# Altium footprint library Screw-M4.PcbLib: 13 footprints
Each footprint in its own frame and in the unit in brackets; x right, y up, seen from the top. Pads: shape width x height; smd on the part's side, far side on the other; paste and mask are expansions set on the pad; w line width, h text height; cw(c..) or ccw(c..) is an arc to the next point about the centre after c.
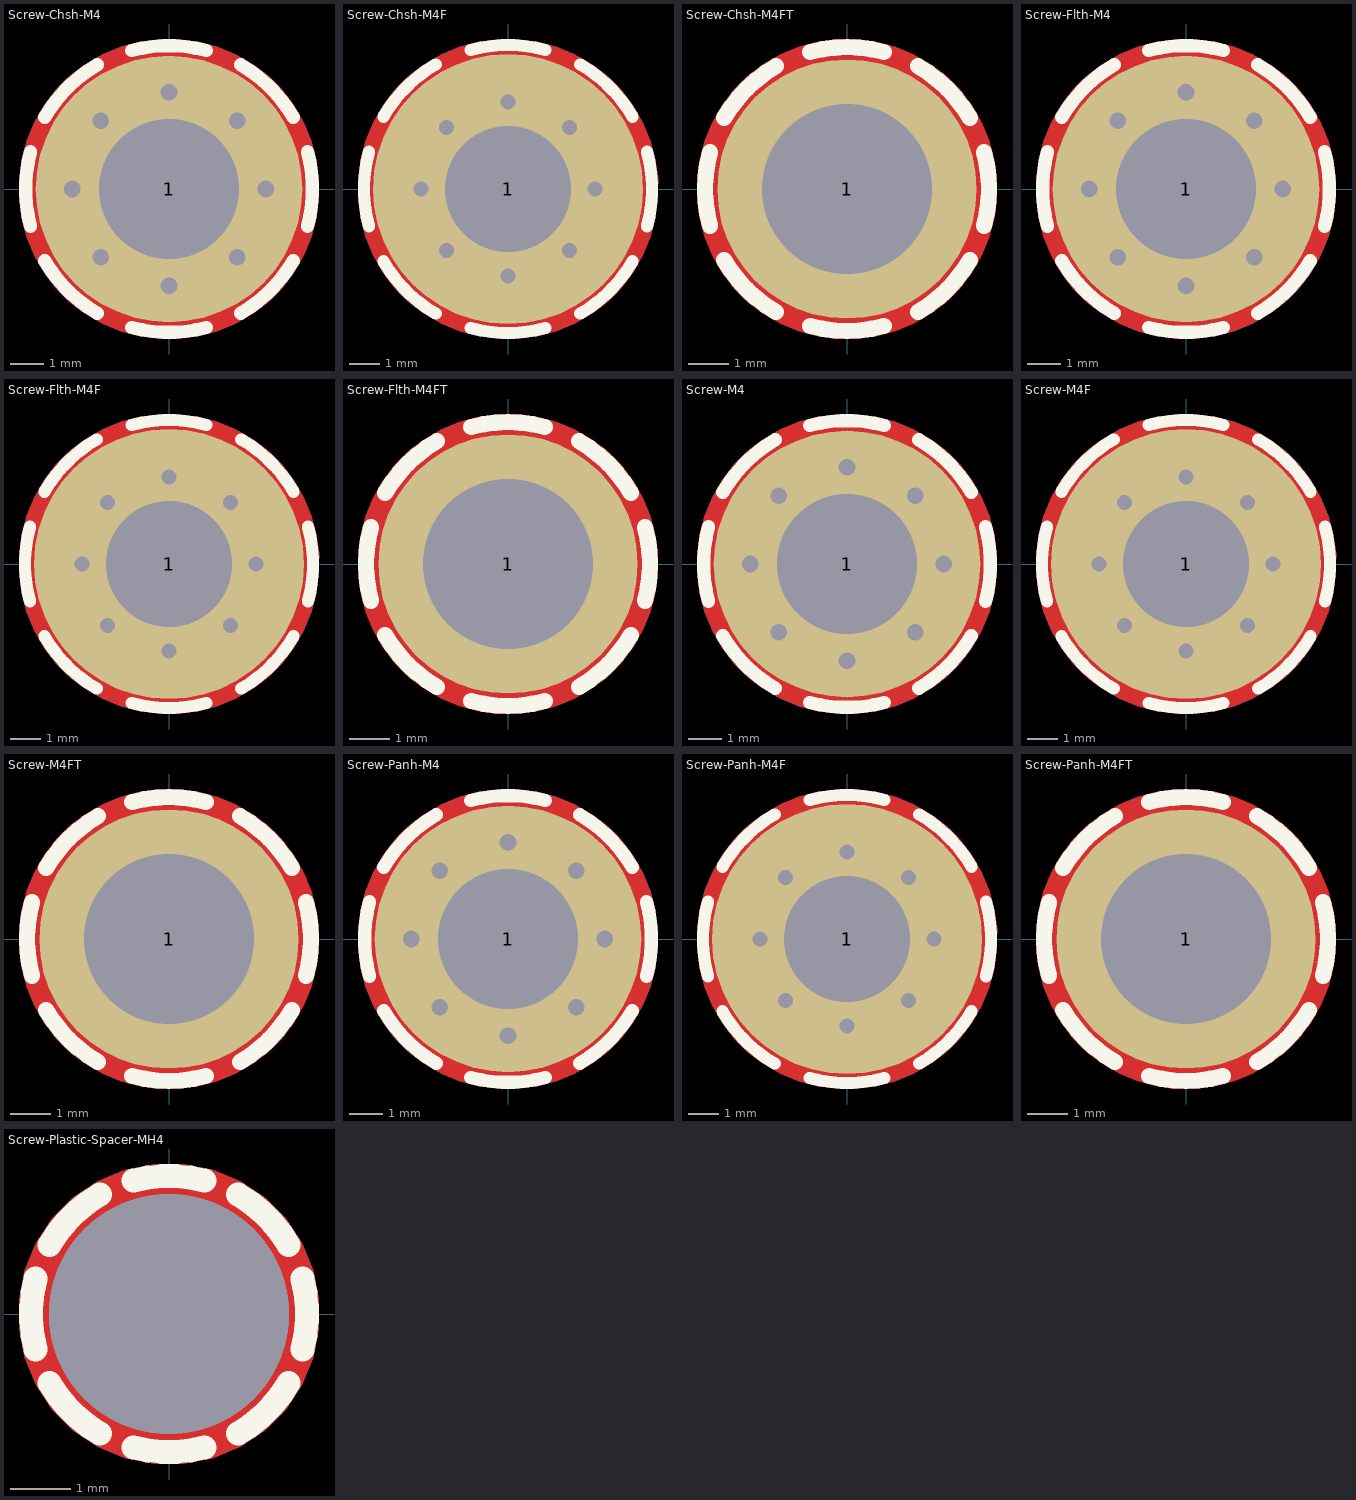
[diagram p0: the footprints below, top view; thin cyan lines are the x and y axes]

## Screw-Chsh-M4 [mm] "Screw, hole diameter 4.2mm, PanHead 8mm"
pads (1):
  round 8 / inner round 4.5 / far side round 8 hole 4.2 mask+0.1: 1(0,0)
via 0,2.9 diameter 0.8 hole 0.5
via 0,-2.9 diameter 0.8 hole 0.5
via 2.051,-2.051 diameter 0.8 hole 0.5
via -2.051,2.051 diameter 0.8 hole 0.5
via 2.9,0 diameter 0.8 hole 0.5
via -2.9,0 diameter 0.8 hole 0.5
via 2.051,2.051 diameter 0.8 hole 0.5
via -2.051,-2.051 diameter 0.8 hole 0.5
Top Layer:
  pour cut-out: 0,4.5 -0.295,4.5 -0.88,4.423 -1.45,4.27 -1.994,4.045 -2.505,3.75 -2.973,3.391 -3.39,2.974 -3.749,2.506 -4.044,1.995 -4.27,1.45 -4.423,0.88 -4.5,0.295 -4.5,0 -4.5,-0.295 -4.423,-0.879 -4.27,-1.449 -4.044,-1.994 -3.749,-2.505 -3.39,-2.973 -2.973,-3.39 -2.505,-3.749 -1.994,-4.044 -1.449,-4.269 -0.88,-4.422 -0.295,-4.499 0,-4.499 0.295,-4.499 0.88,-4.422 1.449,-4.269 1.994,-4.044 2.505,-3.749 2.973,-3.39 3.39,-2.973 3.749,-2.505 4.044,-1.994 4.27,-1.449 4.422,-0.879 4.499,-0.295 4.499,0 4.499,0.295 4.422,0.88 4.27,1.45 4.044,1.995 3.749,2.506 3.39,2.973 2.973,3.391 2.505,3.75 1.994,4.045 1.449,4.27 0.88,4.423 0.295,4.5
Bottom Layer:
  pour cut-out: 0,4.5 -0.295,4.5 -0.88,4.423 -1.45,4.27 -1.994,4.045 -2.505,3.75 -2.973,3.391 -3.39,2.974 -3.749,2.506 -4.044,1.995 -4.27,1.45 -4.423,0.88 -4.5,0.295 -4.5,0 -4.5,-0.295 -4.423,-0.879 -4.27,-1.449 -4.044,-1.994 -3.749,-2.505 -3.39,-2.973 -2.973,-3.39 -2.505,-3.749 -1.994,-4.044 -1.449,-4.269 -0.88,-4.422 -0.295,-4.499 0,-4.499 0.295,-4.499 0.88,-4.422 1.449,-4.269 1.994,-4.044 2.505,-3.749 2.973,-3.39 3.39,-2.973 3.749,-2.505 4.044,-1.994 4.27,-1.449 4.422,-0.879 4.499,-0.295 4.499,0 4.499,0.295 4.422,0.88 4.27,1.45 4.044,1.995 3.749,2.506 3.39,2.973 2.973,3.391 2.505,3.75 1.994,4.045 1.449,4.27 0.88,4.423 0.295,4.5
Top Overlay:
  lines w0.4: -4.153,-1.113 cw(c0,0) -4.153,1.113 ; -3.724,-2.15 ccw(c0,0) -2.15,-3.724 ; -3.724,2.15 cw(c0,0) -2.15,3.724 ; -1.113,-4.153 ccw(c0,0) 1.113,-4.153 ; -1.113,4.153 cw(c0,0) 1.113,4.153 ; 2.15,-3.724 ccw(c0,0) 3.724,-2.15 ; 2.15,3.724 cw(c0,0) 3.724,2.15 ; 4.153,-1.113 ccw(c0,0) 4.153,1.113
3D body "SCRW_CHSH_PHLIPS_M4X8.stp": height 3.18, standoff -7.8, extent -4,-4 4,4

## Screw-Chsh-M4F [mm] "Screw, hole diameter 4.2mm, PanHead 9mm"
pads (1):
  round 9 / inner round 4.5 / far side round 9 hole 4.2 mask+0.1: 1(0,0)
via 0,2.9 diameter 0.8 hole 0.5
via 0,-2.9 diameter 0.8 hole 0.5
via 2.051,-2.051 diameter 0.8 hole 0.5
via -2.051,2.051 diameter 0.8 hole 0.5
via 2.9,0 diameter 0.8 hole 0.5
via -2.9,0 diameter 0.8 hole 0.5
via 2.051,2.051 diameter 0.8 hole 0.5
via -2.051,-2.051 diameter 0.8 hole 0.5
Top Layer:
  pour cut-out: 0,5 -0.328,5 -0.978,4.915 -1.611,4.745 -2.216,4.494 -2.784,4.167 -3.304,3.768 -3.767,3.304 -4.166,2.784 -4.494,2.217 -4.745,1.611 -4.914,0.978 -5,0.328 -5,0 -5,-0.327 -4.914,-0.977 -4.745,-1.61 -4.494,-2.216 -4.166,-2.784 -3.767,-3.304 -3.304,-3.767 -2.784,-4.166 -2.216,-4.494 -1.611,-4.745 -0.978,-4.914 -0.328,-5 0,-5 0.328,-5 0.978,-4.914 1.611,-4.745 2.216,-4.494 2.784,-4.166 3.304,-3.767 3.767,-3.304 4.166,-2.784 4.494,-2.216 4.745,-1.61 4.914,-0.977 5,-0.327 5,0 5,0.328 4.914,0.978 4.745,1.611 4.494,2.217 4.166,2.784 3.767,3.304 3.304,3.768 2.784,4.167 2.216,4.494 1.611,4.745 0.978,4.915 0.328,5
Bottom Layer:
  pour cut-out: 0,5 -0.328,5 -0.978,4.915 -1.611,4.745 -2.216,4.494 -2.784,4.167 -3.304,3.768 -3.767,3.304 -4.166,2.784 -4.494,2.217 -4.745,1.611 -4.914,0.978 -5,0.328 -5,0 -5,-0.327 -4.914,-0.977 -4.745,-1.61 -4.494,-2.216 -4.166,-2.784 -3.767,-3.304 -3.304,-3.767 -2.784,-4.166 -2.216,-4.494 -1.611,-4.745 -0.978,-4.914 -0.328,-5 0,-5 0.328,-5 0.978,-4.914 1.611,-4.745 2.216,-4.494 2.784,-4.166 3.304,-3.767 3.767,-3.304 4.166,-2.784 4.494,-2.216 4.745,-1.61 4.914,-0.977 5,-0.327 5,0 5,0.328 4.914,0.978 4.745,1.611 4.494,2.217 4.166,2.784 3.767,3.304 3.304,3.768 2.784,4.167 2.216,4.494 1.611,4.745 0.978,4.915 0.328,5
Top Overlay:
  lines w0.4: -4.636,-1.242 cw(c0,0) -4.636,1.242 ; -4.157,-2.4 ccw(c0,0) -2.4,-4.157 ; -4.157,2.4 cw(c0,0) -2.4,4.157 ; -1.242,-4.636 ccw(c0,0) 1.242,-4.636 ; -1.242,4.636 cw(c0,0) 1.242,4.636 ; 2.4,-4.157 ccw(c0,0) 4.157,-2.4 ; 2.4,4.157 cw(c0,0) 4.157,2.4 ; 4.636,-1.242 ccw(c0,0) 4.636,1.242
3D body "SCRW_CHSH_PHLIPS_M4X8.stp": height 3.18, standoff -7.8, extent -4,-4 4,4

## Screw-Chsh-M4FT [mm] "Screw, hole diameter 4.2mm, PanHead 6.4mm"
pads (1):
  round 6.4 / inner round 4.5 / far side round 6.4 hole 4.2 mask+0.1: 1(0,0)
Top Layer:
  pour cut-out: 0,3.7 -0.243,3.7 -0.723,3.637 -1.192,3.511 -1.64,3.326 -2.06,3.083 -2.445,2.788 -2.788,2.445 -3.083,2.06 -3.326,1.64 -3.511,1.192 -3.637,0.724 -3.7,0.243 -3.7,0 -3.7,-0.242 -3.637,-0.723 -3.511,-1.192 -3.326,-1.64 -3.083,-2.06 -2.788,-2.445 -2.445,-2.788 -2.06,-3.083 -1.64,-3.325 -1.192,-3.511 -0.723,-3.636 -0.243,-3.7 0,-3.7 0.242,-3.7 0.723,-3.636 1.192,-3.511 1.64,-3.325 2.06,-3.083 2.445,-2.787 2.788,-2.445 3.083,-2.06 3.326,-1.64 3.511,-1.192 3.637,-0.723 3.7,-0.242 3.7,0 3.7,0.243 3.637,0.724 3.511,1.192 3.326,1.64 3.083,2.06 2.788,2.445 2.445,2.788 2.06,3.083 1.64,3.326 1.192,3.512 0.723,3.637 0.242,3.7
Top Overlay:
  lines w0.4: -3.381,-0.906 cw(c0,0) -3.381,0.906 ; -3.031,-1.75 ccw(c0,0) -1.75,-3.031 ; -3.031,1.75 cw(c0,0) -1.75,3.031 ; -0.906,-3.381 ccw(c0,0) 0.906,-3.381 ; -0.906,3.381 cw(c0,0) 0.906,3.381 ; 1.75,-3.031 ccw(c0,0) 3.031,-1.75 ; 1.75,3.031 cw(c0,0) 3.031,1.75 ; 3.381,-0.906 ccw(c0,0) 3.381,0.906
3D body "SCRW_CHSH_PHLIPS_M4X8.stp": height 3.18, standoff -7.8, extent -4,-4 4,4

## Screw-Flth-M4 [mm] "Screw, hole diameter 4.2mm, PanHead 8mm"
pads (1):
  round 8 / inner round 4.5 / far side round 8 hole 4.2 mask+0.1: 1(0,0)
via -2.051,-2.051 diameter 0.8 hole 0.5
via 2.051,2.051 diameter 0.8 hole 0.5
via -2.9,0 diameter 0.8 hole 0.5
via 2.9,0 diameter 0.8 hole 0.5
via -2.051,2.051 diameter 0.8 hole 0.5
via 2.051,-2.051 diameter 0.8 hole 0.5
via 0,-2.9 diameter 0.8 hole 0.5
via 0,2.9 diameter 0.8 hole 0.5
Top Layer:
  pour cut-out: 0,4.5 -0.295,4.5 -0.88,4.423 -1.45,4.27 -1.994,4.045 -2.505,3.75 -2.973,3.391 -3.39,2.974 -3.749,2.506 -4.044,1.995 -4.27,1.45 -4.423,0.88 -4.5,0.295 -4.5,0 -4.5,-0.295 -4.423,-0.879 -4.27,-1.449 -4.044,-1.994 -3.749,-2.505 -3.39,-2.973 -2.973,-3.39 -2.505,-3.749 -1.994,-4.044 -1.449,-4.269 -0.88,-4.422 -0.295,-4.499 0,-4.499 0.295,-4.499 0.88,-4.422 1.449,-4.269 1.994,-4.044 2.505,-3.749 2.973,-3.39 3.39,-2.973 3.749,-2.505 4.044,-1.994 4.27,-1.449 4.422,-0.879 4.499,-0.295 4.499,0 4.499,0.295 4.422,0.88 4.27,1.45 4.044,1.995 3.749,2.506 3.39,2.973 2.973,3.391 2.505,3.75 1.994,4.045 1.449,4.27 0.88,4.423 0.295,4.5
Bottom Layer:
  pour cut-out: 0,4.5 -0.295,4.5 -0.88,4.423 -1.45,4.27 -1.994,4.045 -2.505,3.75 -2.973,3.391 -3.39,2.974 -3.749,2.506 -4.044,1.995 -4.27,1.45 -4.423,0.88 -4.5,0.295 -4.5,0 -4.5,-0.295 -4.423,-0.879 -4.27,-1.449 -4.044,-1.994 -3.749,-2.505 -3.39,-2.973 -2.973,-3.39 -2.505,-3.749 -1.994,-4.044 -1.449,-4.269 -0.88,-4.422 -0.295,-4.499 0,-4.499 0.295,-4.499 0.88,-4.422 1.449,-4.269 1.994,-4.044 2.505,-3.749 2.973,-3.39 3.39,-2.973 3.749,-2.505 4.044,-1.994 4.27,-1.449 4.422,-0.879 4.499,-0.295 4.499,0 4.499,0.295 4.422,0.88 4.27,1.45 4.044,1.995 3.749,2.506 3.39,2.973 2.973,3.391 2.505,3.75 1.994,4.045 1.449,4.27 0.88,4.423 0.295,4.5
Top Overlay:
  lines w0.4: -4.153,-1.113 cw(c0,0) -4.153,1.113 ; -3.724,-2.15 ccw(c0,0) -2.15,-3.724 ; -3.724,2.15 cw(c0,0) -2.15,3.724 ; -1.113,-4.153 ccw(c0,0) 1.113,-4.153 ; -1.113,4.153 cw(c0,0) 1.113,4.153 ; 2.15,-3.724 ccw(c0,0) 3.724,-2.15 ; 2.15,3.724 cw(c0,0) 3.724,2.15 ; 4.153,-1.113 ccw(c0,0) 4.153,1.113
3D body "t1crfchms_unf_no__8_36_0_188_0_188.stp": height 2.2, standoff -2.58, extent -3.619,-3.619 3.62,3.62

## Screw-Flth-M4F [mm] "Screw, hole diameter 4.2mm, PanHead 9mm"
pads (1):
  round 9 / inner round 4.5 / far side round 9 hole 4.2 mask+0.1: 1(0,0)
via 0,2.9 diameter 0.8 hole 0.5
via 0,-2.9 diameter 0.8 hole 0.5
via 2.051,-2.051 diameter 0.8 hole 0.5
via -2.051,2.051 diameter 0.8 hole 0.5
via 2.9,0 diameter 0.8 hole 0.5
via -2.9,0 diameter 0.8 hole 0.5
via 2.051,2.051 diameter 0.8 hole 0.5
via -2.051,-2.051 diameter 0.8 hole 0.5
Top Layer:
  pour cut-out: 0,5 -0.328,5 -0.978,4.915 -1.611,4.745 -2.216,4.494 -2.784,4.167 -3.304,3.768 -3.767,3.304 -4.166,2.784 -4.494,2.217 -4.745,1.611 -4.914,0.978 -5,0.328 -5,0 -5,-0.327 -4.914,-0.977 -4.745,-1.61 -4.494,-2.216 -4.166,-2.784 -3.767,-3.304 -3.304,-3.767 -2.784,-4.166 -2.216,-4.494 -1.611,-4.745 -0.978,-4.914 -0.328,-5 0,-5 0.328,-5 0.978,-4.914 1.611,-4.745 2.216,-4.494 2.784,-4.166 3.304,-3.767 3.767,-3.304 4.166,-2.784 4.494,-2.216 4.745,-1.61 4.914,-0.977 5,-0.327 5,0 5,0.328 4.914,0.978 4.745,1.611 4.494,2.217 4.166,2.784 3.767,3.304 3.304,3.768 2.784,4.167 2.216,4.494 1.611,4.745 0.978,4.915 0.328,5
Bottom Layer:
  pour cut-out: 0,5 -0.328,5 -0.978,4.915 -1.611,4.745 -2.216,4.494 -2.784,4.167 -3.304,3.768 -3.767,3.304 -4.166,2.784 -4.494,2.217 -4.745,1.611 -4.914,0.978 -5,0.328 -5,0 -5,-0.327 -4.914,-0.977 -4.745,-1.61 -4.494,-2.216 -4.166,-2.784 -3.767,-3.304 -3.304,-3.767 -2.784,-4.166 -2.216,-4.494 -1.611,-4.745 -0.978,-4.914 -0.328,-5 0,-5 0.328,-5 0.978,-4.914 1.611,-4.745 2.216,-4.494 2.784,-4.166 3.304,-3.767 3.767,-3.304 4.166,-2.784 4.494,-2.216 4.745,-1.61 4.914,-0.977 5,-0.327 5,0 5,0.328 4.914,0.978 4.745,1.611 4.494,2.217 4.166,2.784 3.767,3.304 3.304,3.768 2.784,4.167 2.216,4.494 1.611,4.745 0.978,4.915 0.328,5
Top Overlay:
  lines w0.4: -4.636,-1.242 cw(c0,0) -4.636,1.242 ; -4.157,-2.4 ccw(c0,0) -2.4,-4.157 ; -4.157,2.4 cw(c0,0) -2.4,4.157 ; -1.242,-4.636 ccw(c0,0) 1.242,-4.636 ; -1.242,4.636 cw(c0,0) 1.242,4.636 ; 2.4,-4.157 ccw(c0,0) 4.157,-2.4 ; 2.4,4.157 cw(c0,0) 4.157,2.4 ; 4.636,-1.242 ccw(c0,0) 4.636,1.242
3D body "t1crfchms_unf_no__8_36_0_188_0_188.stp": height 2.2, standoff -2.58, extent -3.619,-3.619 3.62,3.62

## Screw-Flth-M4FT [mm] "Screw, hole diameter 4.2mm, PanHead 6.4mm"
pads (1):
  round 6.4 / inner round 4.5 / far side round 6.4 hole 4.2 mask+0.1: 1(0,0)
Top Layer:
  pour cut-out: 0,3.7 -0.243,3.7 -0.723,3.637 -1.192,3.511 -1.64,3.326 -2.06,3.083 -2.445,2.788 -2.788,2.445 -3.083,2.06 -3.326,1.64 -3.511,1.192 -3.637,0.724 -3.7,0.243 -3.7,0 -3.7,-0.242 -3.637,-0.723 -3.511,-1.192 -3.326,-1.64 -3.083,-2.06 -2.788,-2.445 -2.445,-2.788 -2.06,-3.083 -1.64,-3.325 -1.192,-3.511 -0.723,-3.636 -0.243,-3.7 0,-3.7 0.242,-3.7 0.723,-3.636 1.192,-3.511 1.64,-3.325 2.06,-3.083 2.445,-2.787 2.788,-2.445 3.083,-2.06 3.326,-1.64 3.511,-1.192 3.637,-0.723 3.7,-0.242 3.7,0 3.7,0.243 3.637,0.724 3.511,1.192 3.326,1.64 3.083,2.06 2.788,2.445 2.445,2.788 2.06,3.083 1.64,3.326 1.192,3.512 0.723,3.637 0.242,3.7
Top Overlay:
  lines w0.4: -3.381,-0.906 cw(c0,0) -3.381,0.906 ; -3.031,-1.75 ccw(c0,0) -1.75,-3.031 ; -3.031,1.75 cw(c0,0) -1.75,3.031 ; -0.906,-3.381 ccw(c0,0) 0.906,-3.381 ; -0.906,3.381 cw(c0,0) 0.906,3.381 ; 1.75,-3.031 ccw(c0,0) 3.031,-1.75 ; 1.75,3.031 cw(c0,0) 3.031,1.75 ; 3.381,-0.906 ccw(c0,0) 3.381,0.906
3D body "t1crfchms_unf_no__8_36_0_188_0_188.stp": height 2.2, standoff -2.58, extent -3.619,-3.619 3.62,3.62

## Screw-M4 [mm] "Screw, hole diameter 4.2mm, PanHead 8mm"
pads (1):
  round 8 / inner round 4.5 / far side round 8 hole 4.2 mask+0.1: 1(0,0)
via -2.051,-2.051 diameter 0.8 hole 0.5
via 2.051,2.051 diameter 0.8 hole 0.5
via -2.9,0 diameter 0.8 hole 0.5
via 2.9,0 diameter 0.8 hole 0.5
via -2.051,2.051 diameter 0.8 hole 0.5
via 2.051,-2.051 diameter 0.8 hole 0.5
via 0,-2.9 diameter 0.8 hole 0.5
via 0,2.9 diameter 0.8 hole 0.5
Top Layer:
  pour cut-out: 0,4.5 -0.295,4.5 -0.88,4.423 -1.45,4.27 -1.994,4.045 -2.505,3.75 -2.973,3.391 -3.39,2.974 -3.749,2.506 -4.044,1.995 -4.27,1.45 -4.423,0.88 -4.5,0.295 -4.5,0 -4.5,-0.295 -4.423,-0.879 -4.27,-1.449 -4.044,-1.994 -3.749,-2.505 -3.39,-2.973 -2.973,-3.39 -2.505,-3.749 -1.994,-4.044 -1.449,-4.269 -0.88,-4.422 -0.295,-4.499 0,-4.499 0.295,-4.499 0.88,-4.422 1.449,-4.269 1.994,-4.044 2.505,-3.749 2.973,-3.39 3.39,-2.973 3.749,-2.505 4.044,-1.994 4.27,-1.449 4.422,-0.879 4.499,-0.295 4.499,0 4.499,0.295 4.422,0.88 4.27,1.45 4.044,1.995 3.749,2.506 3.39,2.973 2.973,3.391 2.505,3.75 1.994,4.045 1.449,4.27 0.88,4.423 0.295,4.5
Bottom Layer:
  pour cut-out: 0,4.5 -0.295,4.5 -0.88,4.423 -1.45,4.27 -1.994,4.045 -2.505,3.75 -2.973,3.391 -3.39,2.974 -3.749,2.506 -4.044,1.995 -4.27,1.45 -4.423,0.88 -4.5,0.295 -4.5,0 -4.5,-0.295 -4.423,-0.879 -4.27,-1.449 -4.044,-1.994 -3.749,-2.505 -3.39,-2.973 -2.973,-3.39 -2.505,-3.749 -1.994,-4.044 -1.449,-4.269 -0.88,-4.422 -0.295,-4.499 0,-4.499 0.295,-4.499 0.88,-4.422 1.449,-4.269 1.994,-4.044 2.505,-3.749 2.973,-3.39 3.39,-2.973 3.749,-2.505 4.044,-1.994 4.27,-1.449 4.422,-0.879 4.499,-0.295 4.499,0 4.499,0.295 4.422,0.88 4.27,1.45 4.044,1.995 3.749,2.506 3.39,2.973 2.973,3.391 2.505,3.75 1.994,4.045 1.449,4.27 0.88,4.423 0.295,4.5
Top Overlay:
  lines w0.4: -4.153,-1.113 cw(c0,0) -4.153,1.113 ; -3.724,-2.15 ccw(c0,0) -2.15,-3.724 ; -3.724,2.15 cw(c0,0) -2.15,3.724 ; -1.113,-4.153 ccw(c0,0) 1.113,-4.153 ; -1.113,4.153 cw(c0,0) 1.113,4.153 ; 2.15,-3.724 ccw(c0,0) 3.724,-2.15 ; 2.15,3.724 cw(c0,0) 3.724,2.15 ; 4.153,-1.113 ccw(c0,0) 4.153,1.113
3D body "SCREW_PANH_m4_6mm.step": height 2.2, standoff -5.83, extent -3.91,-3.91 3.91,3.91

## Screw-M4F [mm] "Screw, hole diameter 4.2mm, PanHead 9mm"
pads (1):
  round 9 / inner round 4.5 / far side round 9 hole 4.2 mask+0.1: 1(0,0)
via 0,2.9 diameter 0.8 hole 0.5
via 0,-2.9 diameter 0.8 hole 0.5
via 2.051,-2.051 diameter 0.8 hole 0.5
via -2.051,2.051 diameter 0.8 hole 0.5
via 2.9,0 diameter 0.8 hole 0.5
via -2.9,0 diameter 0.8 hole 0.5
via 2.051,2.051 diameter 0.8 hole 0.5
via -2.051,-2.051 diameter 0.8 hole 0.5
Top Layer:
  pour cut-out: 0,5 -0.328,5 -0.978,4.915 -1.611,4.745 -2.216,4.494 -2.784,4.167 -3.304,3.768 -3.767,3.304 -4.166,2.784 -4.494,2.217 -4.745,1.611 -4.914,0.978 -5,0.328 -5,0 -5,-0.327 -4.914,-0.977 -4.745,-1.61 -4.494,-2.216 -4.166,-2.784 -3.767,-3.304 -3.304,-3.767 -2.784,-4.166 -2.216,-4.494 -1.611,-4.745 -0.978,-4.914 -0.328,-5 0,-5 0.328,-5 0.978,-4.914 1.611,-4.745 2.216,-4.494 2.784,-4.166 3.304,-3.767 3.767,-3.304 4.166,-2.784 4.494,-2.216 4.745,-1.61 4.914,-0.977 5,-0.327 5,0 5,0.328 4.914,0.978 4.745,1.611 4.494,2.217 4.166,2.784 3.767,3.304 3.304,3.768 2.784,4.167 2.216,4.494 1.611,4.745 0.978,4.915 0.328,5
Bottom Layer:
  pour cut-out: 0,5 -0.328,5 -0.978,4.915 -1.611,4.745 -2.216,4.494 -2.784,4.167 -3.304,3.768 -3.767,3.304 -4.166,2.784 -4.494,2.217 -4.745,1.611 -4.914,0.978 -5,0.328 -5,0 -5,-0.327 -4.914,-0.977 -4.745,-1.61 -4.494,-2.216 -4.166,-2.784 -3.767,-3.304 -3.304,-3.767 -2.784,-4.166 -2.216,-4.494 -1.611,-4.745 -0.978,-4.914 -0.328,-5 0,-5 0.328,-5 0.978,-4.914 1.611,-4.745 2.216,-4.494 2.784,-4.166 3.304,-3.767 3.767,-3.304 4.166,-2.784 4.494,-2.216 4.745,-1.61 4.914,-0.977 5,-0.327 5,0 5,0.328 4.914,0.978 4.745,1.611 4.494,2.217 4.166,2.784 3.767,3.304 3.304,3.768 2.784,4.167 2.216,4.494 1.611,4.745 0.978,4.915 0.328,5
Top Overlay:
  lines w0.4: -4.636,-1.242 cw(c0,0) -4.636,1.242 ; -4.157,-2.4 ccw(c0,0) -2.4,-4.157 ; -4.157,2.4 cw(c0,0) -2.4,4.157 ; -1.242,-4.636 ccw(c0,0) 1.242,-4.636 ; -1.242,4.636 cw(c0,0) 1.242,4.636 ; 2.4,-4.157 ccw(c0,0) 4.157,-2.4 ; 2.4,4.157 cw(c0,0) 4.157,2.4 ; 4.636,-1.242 ccw(c0,0) 4.636,1.242
3D body "SCREW_PANH_m4_6mm.step": height 2.2, standoff -5.83, extent -3.91,-3.91 3.91,3.91

## Screw-M4FT [mm] "Screw, hole diameter 4.2mm, PanHead 6.4mm"
pads (1):
  round 6.4 / inner round 4.5 / far side round 6.4 hole 4.2 mask+0.1: 1(0,0)
Top Layer:
  pour cut-out: 0,3.7 -0.243,3.7 -0.723,3.637 -1.192,3.511 -1.64,3.326 -2.06,3.083 -2.445,2.788 -2.788,2.445 -3.083,2.06 -3.326,1.64 -3.511,1.192 -3.637,0.724 -3.7,0.243 -3.7,0 -3.7,-0.242 -3.637,-0.723 -3.511,-1.192 -3.326,-1.64 -3.083,-2.06 -2.788,-2.445 -2.445,-2.788 -2.06,-3.083 -1.64,-3.325 -1.192,-3.511 -0.723,-3.636 -0.243,-3.7 0,-3.7 0.242,-3.7 0.723,-3.636 1.192,-3.511 1.64,-3.325 2.06,-3.083 2.445,-2.787 2.788,-2.445 3.083,-2.06 3.326,-1.64 3.511,-1.192 3.637,-0.723 3.7,-0.242 3.7,0 3.7,0.243 3.637,0.724 3.511,1.192 3.326,1.64 3.083,2.06 2.788,2.445 2.445,2.788 2.06,3.083 1.64,3.326 1.192,3.512 0.723,3.637 0.242,3.7
Top Overlay:
  lines w0.4: -3.381,-0.906 cw(c0,0) -3.381,0.906 ; -3.031,-1.75 ccw(c0,0) -1.75,-3.031 ; -3.031,1.75 cw(c0,0) -1.75,3.031 ; -0.906,-3.381 ccw(c0,0) 0.906,-3.381 ; -0.906,3.381 cw(c0,0) 0.906,3.381 ; 1.75,-3.031 ccw(c0,0) 3.031,-1.75 ; 1.75,3.031 cw(c0,0) 3.031,1.75 ; 3.381,-0.906 ccw(c0,0) 3.381,0.906
3D body "SCREW_PANH_m4_6mm.step": height 2.2, standoff -5.83, extent -3.91,-3.91 3.91,3.91

## Screw-Panh-M4 [mm] "Screw, hole diameter 4.2mm, PanHead 8mm"
pads (1):
  round 8 / inner round 4.5 / far side round 8 hole 4.2 mask+0.1: 1(0,0)
via -2.051,-2.051 diameter 0.8 hole 0.5
via 2.051,2.051 diameter 0.8 hole 0.5
via -2.9,0 diameter 0.8 hole 0.5
via 2.9,0 diameter 0.8 hole 0.5
via -2.051,2.051 diameter 0.8 hole 0.5
via 2.051,-2.051 diameter 0.8 hole 0.5
via 0,-2.9 diameter 0.8 hole 0.5
via 0,2.9 diameter 0.8 hole 0.5
Top Layer:
  pour cut-out: 0,4.5 -0.295,4.5 -0.88,4.423 -1.45,4.27 -1.994,4.045 -2.505,3.75 -2.973,3.391 -3.39,2.974 -3.749,2.506 -4.044,1.995 -4.27,1.45 -4.423,0.88 -4.5,0.295 -4.5,0 -4.5,-0.295 -4.423,-0.879 -4.27,-1.449 -4.044,-1.994 -3.749,-2.505 -3.39,-2.973 -2.973,-3.39 -2.505,-3.749 -1.994,-4.044 -1.449,-4.269 -0.88,-4.422 -0.295,-4.499 0,-4.499 0.295,-4.499 0.88,-4.422 1.449,-4.269 1.994,-4.044 2.505,-3.749 2.973,-3.39 3.39,-2.973 3.749,-2.505 4.044,-1.994 4.27,-1.449 4.422,-0.879 4.499,-0.295 4.499,0 4.499,0.295 4.422,0.88 4.27,1.45 4.044,1.995 3.749,2.506 3.39,2.973 2.973,3.391 2.505,3.75 1.994,4.045 1.449,4.27 0.88,4.423 0.295,4.5
Bottom Layer:
  pour cut-out: 0,4.5 -0.295,4.5 -0.88,4.423 -1.45,4.27 -1.994,4.045 -2.505,3.75 -2.973,3.391 -3.39,2.974 -3.749,2.506 -4.044,1.995 -4.27,1.45 -4.423,0.88 -4.5,0.295 -4.5,0 -4.5,-0.295 -4.423,-0.879 -4.27,-1.449 -4.044,-1.994 -3.749,-2.505 -3.39,-2.973 -2.973,-3.39 -2.505,-3.749 -1.994,-4.044 -1.449,-4.269 -0.88,-4.422 -0.295,-4.499 0,-4.499 0.295,-4.499 0.88,-4.422 1.449,-4.269 1.994,-4.044 2.505,-3.749 2.973,-3.39 3.39,-2.973 3.749,-2.505 4.044,-1.994 4.27,-1.449 4.422,-0.879 4.499,-0.295 4.499,0 4.499,0.295 4.422,0.88 4.27,1.45 4.044,1.995 3.749,2.506 3.39,2.973 2.973,3.391 2.505,3.75 1.994,4.045 1.449,4.27 0.88,4.423 0.295,4.5
Top Overlay:
  lines w0.4: -4.153,-1.113 cw(c0,0) -4.153,1.113 ; -3.724,-2.15 ccw(c0,0) -2.15,-3.724 ; -3.724,2.15 cw(c0,0) -2.15,3.724 ; -1.113,-4.153 ccw(c0,0) 1.113,-4.153 ; -1.113,4.153 cw(c0,0) 1.113,4.153 ; 2.15,-3.724 ccw(c0,0) 3.724,-2.15 ; 2.15,3.724 cw(c0,0) 3.724,2.15 ; 4.153,-1.113 ccw(c0,0) 4.153,1.113
3D body "PanHeadCrossRecessedScrew_M4x5.STEP": height 3.3, standoff -4.7, extent -4,-4 4,4

## Screw-Panh-M4F [mm] "Screw, hole diameter 4.2mm, PanHead 9mm"
pads (1):
  round 9 / inner round 4.5 / far side round 9 hole 4.2 mask+0.1: 1(0,0)
via 0,2.9 diameter 0.8 hole 0.5
via 0,-2.9 diameter 0.8 hole 0.5
via 2.051,-2.051 diameter 0.8 hole 0.5
via -2.051,2.051 diameter 0.8 hole 0.5
via 2.9,0 diameter 0.8 hole 0.5
via -2.9,0 diameter 0.8 hole 0.5
via 2.051,2.051 diameter 0.8 hole 0.5
via -2.051,-2.051 diameter 0.8 hole 0.5
Top Layer:
  pour cut-out: 0,5 -0.328,5 -0.978,4.915 -1.611,4.745 -2.216,4.494 -2.784,4.167 -3.304,3.768 -3.767,3.304 -4.166,2.784 -4.494,2.217 -4.745,1.611 -4.914,0.978 -5,0.328 -5,0 -5,-0.327 -4.914,-0.977 -4.745,-1.61 -4.494,-2.216 -4.166,-2.784 -3.767,-3.304 -3.304,-3.767 -2.784,-4.166 -2.216,-4.494 -1.611,-4.745 -0.978,-4.914 -0.328,-5 0,-5 0.328,-5 0.978,-4.914 1.611,-4.745 2.216,-4.494 2.784,-4.166 3.304,-3.767 3.767,-3.304 4.166,-2.784 4.494,-2.216 4.745,-1.61 4.914,-0.977 5,-0.327 5,0 5,0.328 4.914,0.978 4.745,1.611 4.494,2.217 4.166,2.784 3.767,3.304 3.304,3.768 2.784,4.167 2.216,4.494 1.611,4.745 0.978,4.915 0.328,5
Bottom Layer:
  pour cut-out: 0,5 -0.328,5 -0.978,4.915 -1.611,4.745 -2.216,4.494 -2.784,4.167 -3.304,3.768 -3.767,3.304 -4.166,2.784 -4.494,2.217 -4.745,1.611 -4.914,0.978 -5,0.328 -5,0 -5,-0.327 -4.914,-0.977 -4.745,-1.61 -4.494,-2.216 -4.166,-2.784 -3.767,-3.304 -3.304,-3.767 -2.784,-4.166 -2.216,-4.494 -1.611,-4.745 -0.978,-4.914 -0.328,-5 0,-5 0.328,-5 0.978,-4.914 1.611,-4.745 2.216,-4.494 2.784,-4.166 3.304,-3.767 3.767,-3.304 4.166,-2.784 4.494,-2.216 4.745,-1.61 4.914,-0.977 5,-0.327 5,0 5,0.328 4.914,0.978 4.745,1.611 4.494,2.217 4.166,2.784 3.767,3.304 3.304,3.768 2.784,4.167 2.216,4.494 1.611,4.745 0.978,4.915 0.328,5
Top Overlay:
  lines w0.4: -4.636,-1.242 cw(c0,0) -4.636,1.242 ; -4.157,-2.4 ccw(c0,0) -2.4,-4.157 ; -4.157,2.4 cw(c0,0) -2.4,4.157 ; -1.242,-4.636 ccw(c0,0) 1.242,-4.636 ; -1.242,4.636 cw(c0,0) 1.242,4.636 ; 2.4,-4.157 ccw(c0,0) 4.157,-2.4 ; 2.4,4.157 cw(c0,0) 4.157,2.4 ; 4.636,-1.242 ccw(c0,0) 4.636,1.242
3D body "PanHeadCrossRecessedScrew_M4x5.STEP": height 3.3, standoff -4.7, extent -4,-4 4,4

## Screw-Panh-M4FT [mm] "Screw, hole diameter 4.2mm, PanHead 6.4mm"
pads (1):
  round 6.4 / inner round 4.5 / far side round 6.4 hole 4.2 mask+0.1: 1(0,0)
Top Layer:
  pour cut-out: 0,3.7 -0.243,3.7 -0.723,3.637 -1.192,3.511 -1.64,3.326 -2.06,3.083 -2.445,2.788 -2.788,2.445 -3.083,2.06 -3.326,1.64 -3.511,1.192 -3.637,0.724 -3.7,0.243 -3.7,0 -3.7,-0.242 -3.637,-0.723 -3.511,-1.192 -3.326,-1.64 -3.083,-2.06 -2.788,-2.445 -2.445,-2.788 -2.06,-3.083 -1.64,-3.325 -1.192,-3.511 -0.723,-3.636 -0.243,-3.7 0,-3.7 0.242,-3.7 0.723,-3.636 1.192,-3.511 1.64,-3.325 2.06,-3.083 2.445,-2.787 2.788,-2.445 3.083,-2.06 3.326,-1.64 3.511,-1.192 3.637,-0.723 3.7,-0.242 3.7,0 3.7,0.243 3.637,0.724 3.511,1.192 3.326,1.64 3.083,2.06 2.788,2.445 2.445,2.788 2.06,3.083 1.64,3.326 1.192,3.512 0.723,3.637 0.242,3.7
Top Overlay:
  lines w0.4: -3.381,-0.906 cw(c0,0) -3.381,0.906 ; -3.031,-1.75 ccw(c0,0) -1.75,-3.031 ; -3.031,1.75 cw(c0,0) -1.75,3.031 ; -0.906,-3.381 ccw(c0,0) 0.906,-3.381 ; -0.906,3.381 cw(c0,0) 0.906,3.381 ; 1.75,-3.031 ccw(c0,0) 3.031,-1.75 ; 1.75,3.031 cw(c0,0) 3.031,1.75 ; 3.381,-0.906 ccw(c0,0) 3.381,0.906
3D body "PanHeadCrossRecessedScrew_M4x5.STEP": height 3.3, standoff -4.7, extent -4,-4 4,4

## Screw-Plastic-Spacer-MH4 [mm] "Screw Plastic Spacer, hole diameter 4mm"
pads (1):
  round 4 hole 4 unplated mask+0.1: ""(0,0)
Top Layer:
  pour cut-out: 0,2.5 -0.246,2.5 -0.729,2.404 -1.184,2.216 -1.594,1.942 -1.942,1.594 -2.216,1.184 -2.404,0.729 -2.5,0.246 -2.5,0 -2.5,-0.246 -2.404,-0.729 -2.215,-1.184 -1.942,-1.594 -1.594,-1.942 -1.184,-2.215 -0.729,-2.404 -0.246,-2.5 0,-2.5 0.246,-2.5 0.729,-2.404 1.184,-2.215 1.594,-1.942 1.942,-1.594 2.215,-1.184 2.404,-0.729 2.5,-0.246 2.5,0 2.5,0.246 2.404,0.729 2.215,1.184 1.942,1.594 1.594,1.942 1.184,2.216 0.729,2.404 0.246,2.5
Bottom Layer:
  pour cut-out: 0,2.5 -0.246,2.5 -0.729,2.404 -1.184,2.216 -1.594,1.942 -1.942,1.594 -2.216,1.184 -2.404,0.729 -2.5,0.246 -2.5,0 -2.5,-0.246 -2.404,-0.729 -2.215,-1.184 -1.942,-1.594 -1.594,-1.942 -1.184,-2.215 -0.729,-2.404 -0.246,-2.5 0,-2.5 0.246,-2.5 0.729,-2.404 1.184,-2.215 1.594,-1.942 1.942,-1.594 2.215,-1.184 2.404,-0.729 2.5,-0.246 2.5,0 2.5,0.246 2.404,0.729 2.215,1.184 1.942,1.594 1.594,1.942 1.184,2.216 0.729,2.404 0.246,2.5
Top Overlay:
  lines w0.4: -2.222,-0.595 cw(c0,0) -2.222,0.595 ; -1.992,-1.15 ccw(c0,0) -1.15,-1.992 ; -1.992,1.15 cw(c0,0) -1.15,1.992 ; -0.595,-2.222 ccw(c0,0) 0.595,-2.222 ; -0.595,2.222 cw(c0,0) 0.595,2.222 ; 1.15,-1.992 ccw(c0,0) 1.992,-1.15 ; 1.15,1.992 cw(c0,0) 1.992,1.15 ; 2.222,-0.595 ccw(c0,0) 2.222,0.595